# EAGLE library part TINY2350 (library pimoroni-boards)
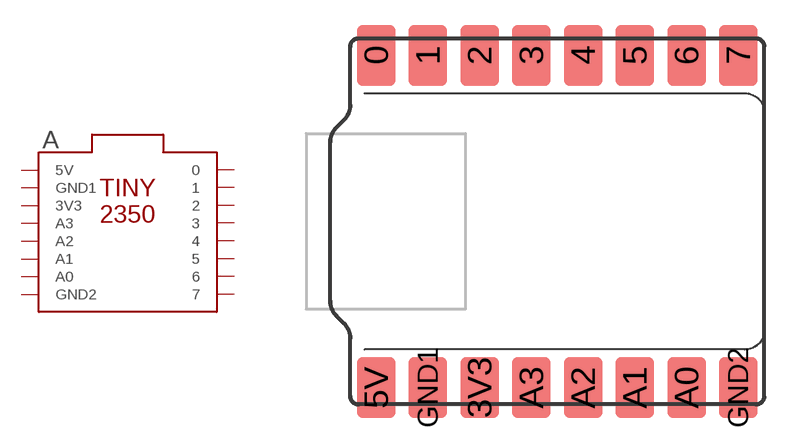
[diagram p2: symbol with the pads of TINY2350; footprint TINY2350]

Designator prefix A

## TINY2350  [TINY2350]
0  0
1  1
2  2
3  3
3V3  3V3
4  4
5  5
5V  5V
6  6
7  7
A0  A0
A1  A1
A2  A2
A3  A3
GND1  GND1
GND2  GND2

## Footprint TINY2350 (pad centres in mm)
smd 1.9 x 3: 0 1.27,8.17; 1 3.81,8.17; 2 6.35,8.17; 3 8.89,8.17; 3V3 6.35,-8.17; 4 11.43,8.17; 5 13.97,8.17; 5V 1.27,-8.17; 6 16.51,8.17; 7 19.05,8.17; A0 16.51,-8.17; A1 13.97,-8.17; A2 11.43,-8.17; A3 8.89,-8.17; GND1 3.81,-8.17; GND2 19.05,-8.17